# Altium schematic symbol library AT24CX.SchLib: 1 symbol
Pins are listed as number, name and electrical type; pins without a type are passive.

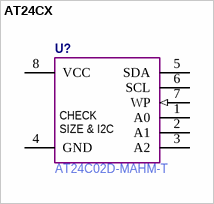
[diagram p0: symbol AT24CX]

## AT24CX
designator U?  Manufacturer Part Number: AT24C02D-MAHM-T  (hidden comment: AT24CX)
EEPROM PB/HALO free NiPdAu, 1.7V
pins: 1 A0, 2 A1, 3 A2, 4 GND (power), 5 SDA (oc), 6 SCL (oc), 7 WP (in), 8 VCC (power)
text: CHECK SIZE & I2C ADDR